# EAGLE library part ADS7041IDCUR (library ADS7041IDCU)
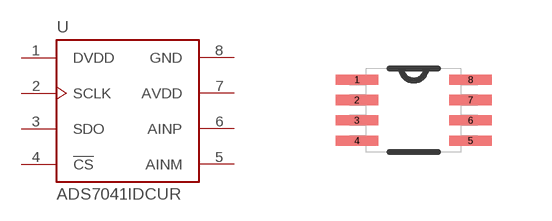
[diagram p0: symbol with the pads of SOP50P310X90-8N; footprint SOP50P310X90-8N]

Designator prefix -

## ADS7041IDCUR  [SOP50P310X90-8N]
1  DVDD  pwr
2  SCLK  in
3  SDO  out
4  !CS!  in
5  AINM  in
6  AINP  in
7  AVDD  pwr
8  GND  pwr

## Footprint SOP50P310X90-8N (pad centres in mm)
smd 1.067 x 0.254: 1 -1.422,0.762; 2 -1.422,0.254; 3 -1.422,-0.254; 4 -1.422,-0.762; 5 1.422,-0.762; 6 1.422,-0.254; 7 1.422,0.254; 8 1.422,0.762